# Altium schematic symbol library Drvenkar_Dario.SchLib: 11 symbols
Pins are listed as number, name and electrical type; pins without a type are passive.

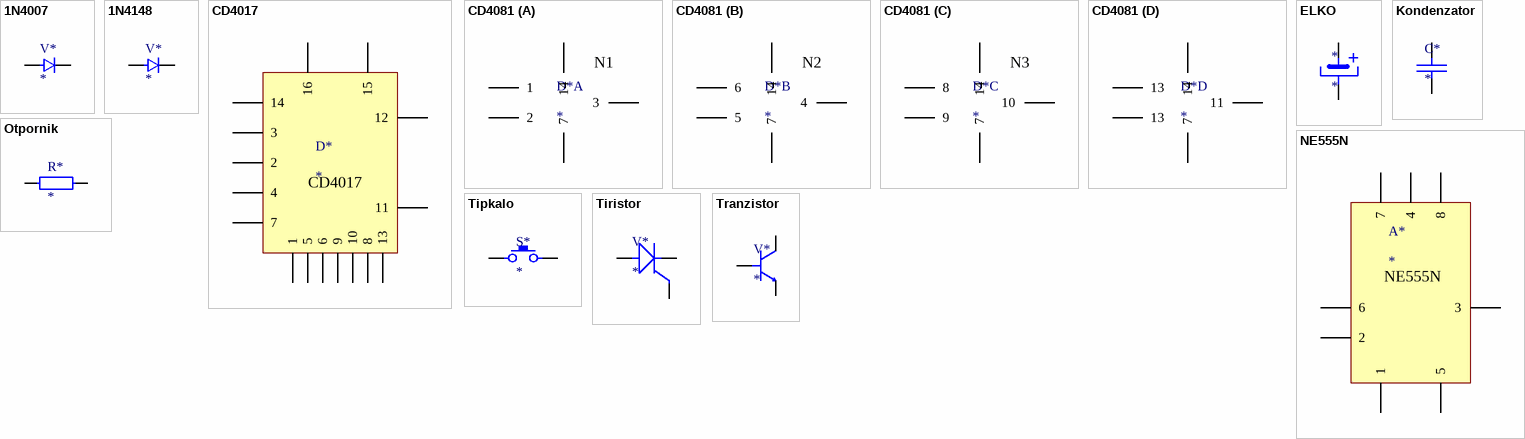
[diagram p0: symbols 1N4007 to Tranzistor]

## 1N4007
designator V*
pins: 1, 2

## 1N4148
designator V*
pins: 1, 2

## CD4017
designator D*
pins: 1, 2, 3, 4, 5, 6, 7, 8, 9, 10, 11, 12, 13, 14, 15, 16

## CD4081
designator D*
part A pins: 1, 2, 3, 7, 14
part B pins: 4, 5, 6, 7, 14
part C pins: 7, 8, 9, 10, 14
part D pins: 7, 11, 13, 13, 14
part A text: N1
part B text: N2
part C text: N3

## ELKO
designator *
pins: 1, 2

## Kondenzator
designator C*
pins: 1, 2

## NE555N
designator A*
pins: 1, 2, 3, 4, 5, 6, 7, 8

## Otpornik
designator R*
pins: 1, 2

## Tipkalo
designator S*
pins: 1, 2

## Tiristor
designator V*
pins: 1, 2, 3

## Tranzistor
designator V*
pins: 1, 2, 3